# Altium footprint library DESD3V3S1BL-7B.PcbLib: 3 footprints
Each footprint in its own frame and in the unit in brackets; x right, y up, seen from the top. Pads: shape width x height; smd on the part's side, far side on the other; paste and mask are expansions set on the pad; w line width, h text height; cw(c..) or ccw(c..) is an arc to the next point about the centre after c.
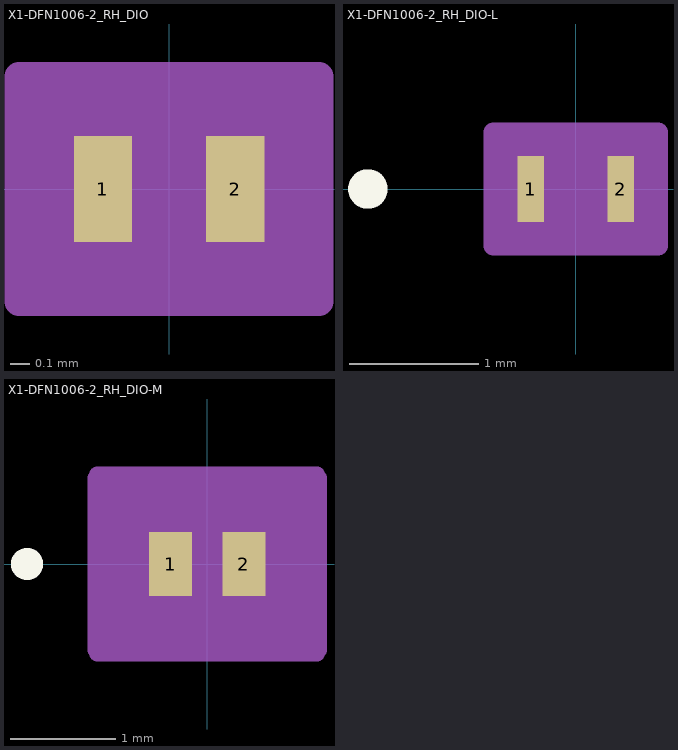
[diagram p0: the footprints below, top view; thin cyan lines are the x and y axes]

## X1-DFN1006-2_RH_DIO [mil]
pads (2):
  rect 12x22 smd paste+0 mask-1: 1(-13.69,0) 2(13.69,0)
Mechanical 13:
  circle w0: c0,0 r0
  lines w1: -21,-13.29 21,-13.29 21,13.29 -21,13.29 -21,-13.29
Mechanical 15:
  region: -31,-21 -31,21 -31,23.29 31,23.29 31,21 31,-21 31,-23.29 -31,-23.29
  lines w6: -31,-21 -31,21 ; -31,-21 -31,-21 ; -31,-21 -31,-23.29 31,-23.29 31,-21 ; -31,21 -31,21 ; -31,21 -31,23.29 31,23.29 31,21 ; 31,-21 31,21 ; 31,-21 31,-21 ; 31,21 31,21
3D body "X1-DFN1006-2_RH_DIO.step": height 21.1, standoff 0, extent -20.98,-13.27 20.98,13.27

## X1-DFN1006-2_RH_DIO-L [mil]
pads (2):
  rect 8x20 smd paste+0 mask+0: 1(-13.69,0) 2(13.69,0)
Top Overlay:
  circle w6: c-63.19,0 r3
Mechanical 13:
  circle w0: c0,0 r3
  lines w1: -21,-13.29 21,-13.29 21,13.29 -21,13.29 -21,-13.29
Mechanical 15:
  region: -25,-14 -25,14 -25,17.29 25,17.29 25,14 25,-14 25,-17.29 -25,-17.29
  lines w6: -25,-14 -25,14 ; -25,-14 -25,-14 ; -25,-14 -25,-17.29 25,-17.29 25,-14 ; -25,14 -25,14 ; -25,14 -25,17.29 25,17.29 25,14 ; 25,-14 25,14 ; 25,-14 25,-14 ; 25,14 25,14
3D body "X1-DFN1006-2_RH_DIO.step": height 21.1, standoff 0, extent -20.98,-13.27 20.98,13.27

## X1-DFN1006-2_RH_DIO-M [mil]
pads (2):
  rect 16x24 smd paste+0 mask+0: 1(-13.69,0) 2(13.69,0)
Top Overlay:
  circle w6: c-67.19,0 r3
Mechanical 13:
  circle w0: c0,0 r3
  lines w1: -21,-13.29 21,-13.29 21,13.29 -21,13.29 -21,-13.29
Mechanical 15:
  region: -41,-32 -41.69,-32 -41.69,32 -41,32 -41,33.29 41,33.29 41,32 41.69,32 41.69,-32 41,-32 41,-33.29 -41,-33.29
  lines w6: -41.69,-32 -41.69,32 -41,32 -41,33.29 41,33.29 41,32 41.69,32 41.69,-32 41,-32 41,-33.29 -41,-33.29 -41,-32 -41.69,-32
3D body "X1-DFN1006-2_RH_DIO.step": height 21.1, standoff 0, extent -20.98,-13.27 20.98,13.27